# Altium footprint library PAL.PcbLib: 271 footprints (part 9 of 17)
Each footprint in its own frame and in the unit in brackets; x right, y up, seen from the top. Pads: shape width x height; smd on the part's side, far side on the other; paste and mask are expansions set on the pad; w line width, h text height; cw(c..) or ccw(c..) is an arc to the next point about the centre after c.
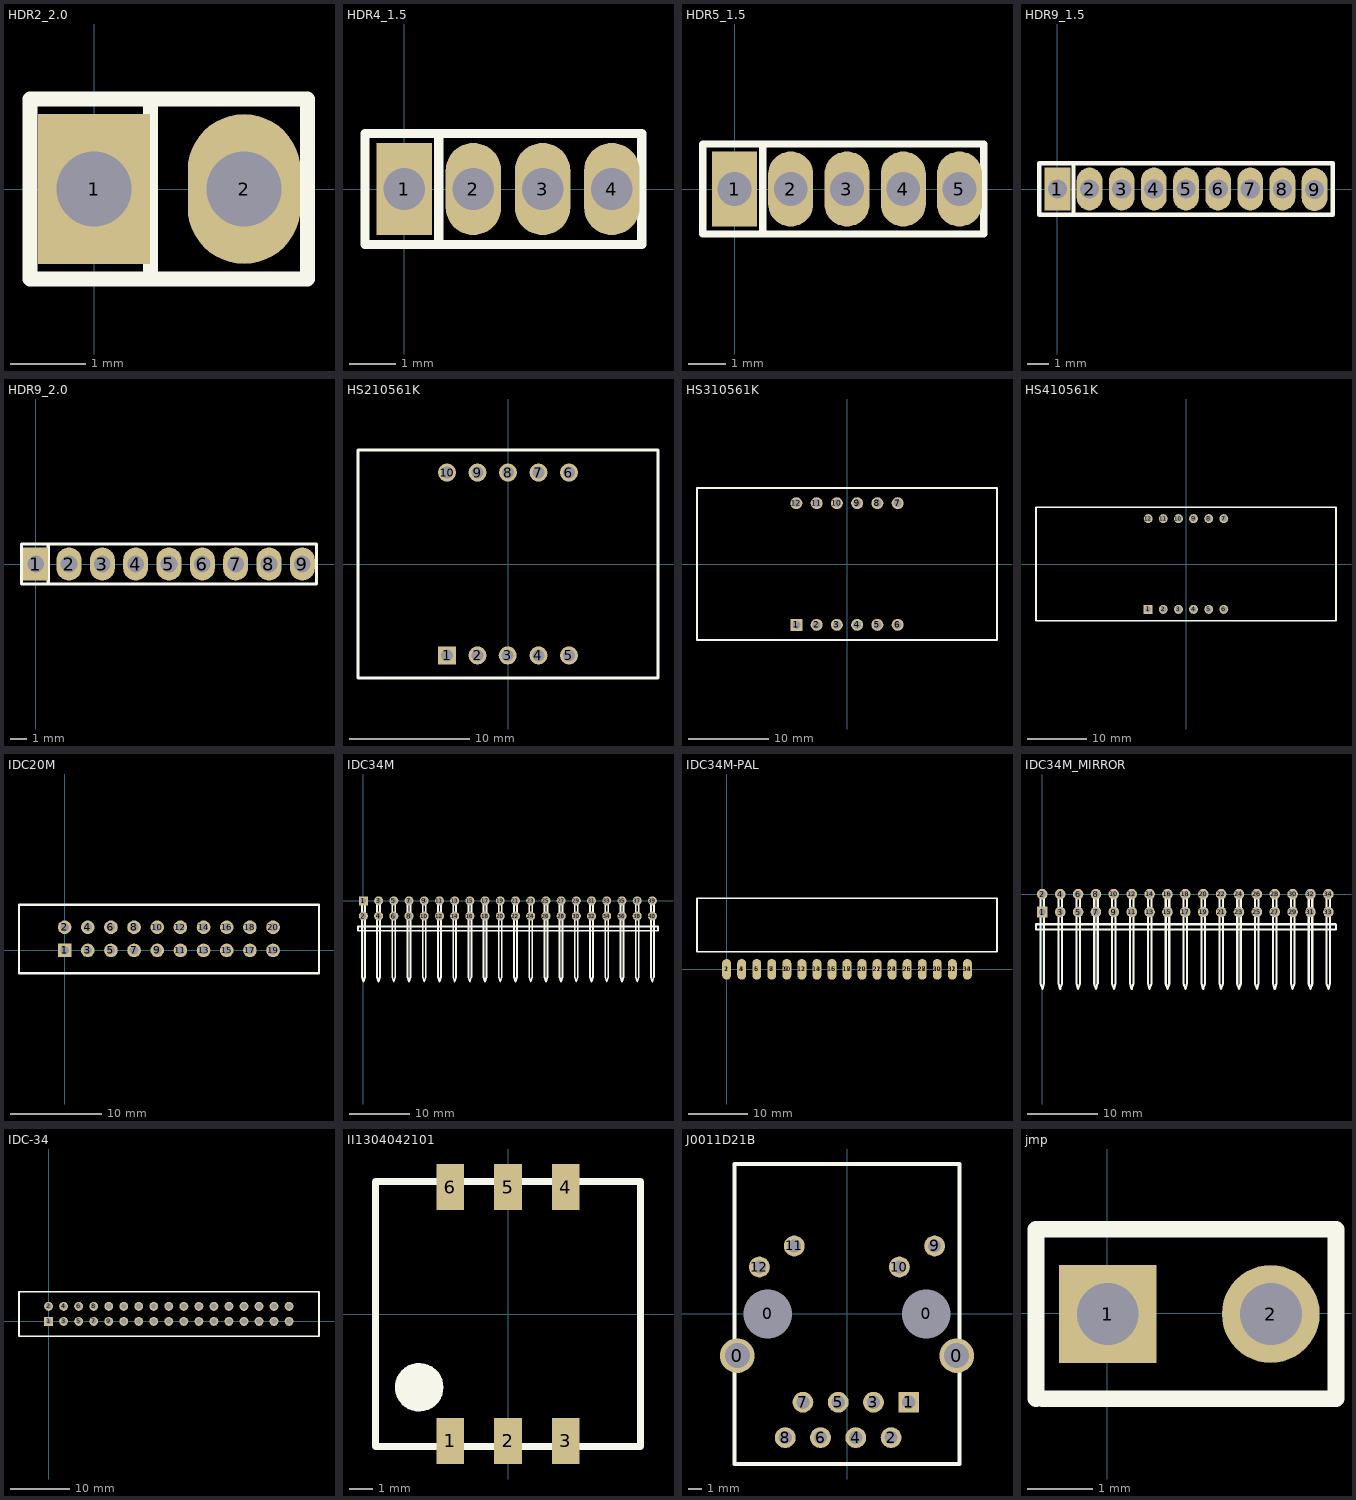
[diagram p8: the footprints below, top view; thin cyan lines are the x and y axes]

## HDR2_2.0 [mm]
pads (2):
  rect 1.5x2 hole 1: 1(0,0)
  oval 1.5x2 hole 1: 2(2,0)
Top Overlay:
  lines w0.2: 0.75,-1.2 0.75,1.2 ; -0.85,-1.2 2.85,-1.2 2.85,1.2 -0.85,1.2 -0.85,-1.2

## HDR4_1.5 [mm]
pads (4):
  rect 1.2x2 hole 0.9: 1(0,0)
  oval 1.2x2 hole 0.9: 2(1.5,0) 3(3,0) 4(4.5,0)
Top Overlay:
  lines w0.2: 0.75,-1.2 0.75,1.2 ; -0.85,-1.2 5.15,-1.2 5.15,1.2 -0.85,1.2 -0.85,-1.2

## HDR5_1.5 [mm]
pads (5):
  rect 1.2x2 hole 0.9: 1(0,0)
  oval 1.2x2 hole 0.9: 2(1.5,0) 3(3,0) 4(4.5,0) 5(6,0)
Top Overlay:
  lines w0.2: 0.75,-1.2 0.75,1.2 ; -0.85,-1.2 6.65,-1.2 6.65,1.2 -0.85,1.2 -0.85,-1.2

## HDR9_1.5 [mm]
pads (9):
  rect 1.2x2 on Top hole 0.9: 1(0,0)
  oval 1.2x2 on Top hole 0.9: 2(1.5,0) 3(3,0) 4(4.5,0) 5(6,0) 6(7.5,0) 7(9,0) 8(10.5,0) 9(12,-0.025)
Top Overlay:
  lines w0.2: 0.75,-1.2 0.75,1.2 ; -0.85,-1.2 12.85,-1.2 12.85,1.2 -0.85,1.2 -0.85,-1.2

## HDR9_2.0 [mm]
pads (9):
  rect 1.5x2 hole 1: 1(0,0)
  oval 1.5x2 hole 1: 2(2,0) 3(4,0) 4(6,0) 5(8,0) 6(10,0) 7(12,0) 8(14,0) 9(16,0)
Top Overlay:
  lines w0.2: 0.75,-1.2 0.75,1.2 ; -0.85,-1.2 -0.85,1.2 16.85,1.2 16.85,-1.2 -0.85,-1.2

## HS210561K [mm]
pads (10):
  rect 1.5x1.5 on Top hole 1: 1(-5.08,-7.62)
  round 1.5 on Top hole 1: 2(-2.54,-7.62) 3(-0.025,-7.62) 4(2.54,-7.62) 5(5.08,-7.62) 6(5.08,7.62) 7(2.54,7.62) 8(0,7.62) 9(-2.54,7.62) 10(-5.08,7.62)
Top Overlay:
  lines w0.254: -12.5,-9.5 0,-9.5 12.5,-9.5 12.5,0 12.5,9.5 0,9.5 -12.5,9.5 -12.5,0 -12.5,-9.5

## HS310561K [mm]
pads (12):
  rect 1.5x1.5 on Top hole 1: 1(-6.35,-7.62)
  round 1.5 on Top hole 1: 2(-3.81,-7.62) 3(-1.27,-7.62) 4(1.27,-7.62) 5(3.81,-7.62) 6(6.35,-7.62) 7(6.35,7.62) 8(3.81,7.62) 9(1.27,7.62) 10(-1.27,7.62) 11(-3.81,7.62) 12(-6.35,7.62)
Top Overlay:
  lines w0.254: -18.8,-9.5 -18.8,0 -18.8,9.5 0,9.5 18.8,9.5 18.8,0 18.8,-9.5 0,-9.5 -18.8,-9.5

## HS410561K [mm]
pads (12):
  rect 1.5x1.5 on Top hole 1: 1(-6.35,-7.62)
  round 1.5 on Top hole 1: 2(-3.81,-7.62) 3(-1.27,-7.62) 4(1.27,-7.62) 5(3.81,-7.62) 6(6.35,-7.62) 7(6.35,7.62) 8(3.81,7.62) 9(1.27,7.62) 10(-1.27,7.62) 11(-3.81,7.62) 12(-6.35,7.62)
Top Overlay:
  lines w0.254: -25.2,-9.5 0,-9.5 25.2,-9.5 25.2,0 25.2,9.5 0,9.5 -25.2,9.5 -25.2,0 -25.2,-9.5

## IDC20M [mm]
pads (20):
  rect 1.5x1.5 on Top hole 0.95: 1(0,0)
  round 1.5 on Top hole 0.95: 2(0,2.54) 3(2.54,0) 4(2.54,2.54) 5(5.08,0) 6(5.08,2.54) 7(7.62,0) 8(7.62,2.54) 9(10.16,0) 10(10.16,2.54) 11(12.7,0) 12(12.7,2.54) 13(15.24,0) 14(15.24,2.54) 15(17.78,0) 16(17.78,2.54) 17(20.32,0) 18(20.32,2.54) 19(22.86,0) 20(22.86,2.54)
Top Overlay:
  lines w0.254: -5,-2.5 -5,5 27.9,5 27.9,-2.5 -5,-2.5

## IDC34M [mm]
pads (40):
  rect 1.5x1.5 on Top hole 0.95: 1(0,0)
  round 1.5 on Top hole 0.95: 2(0,-2.54) 3(2.54,0) 4(2.54,-2.54) 5(5.08,0) 6(5.08,-2.54) 7(7.62,0) 8(7.62,-2.54) 9(10.16,0) 10(10.16,-2.54) 11(12.7,0) 12(12.7,-2.54) 13(15.24,0) 14(15.24,-2.54) 15(17.78,0) 16(17.78,-2.54) 17(20.32,0) 18(20.32,-2.54) 19(22.86,0) 20(22.86,-2.54) 21(25.4,0) 22(25.4,-2.54) 23(27.94,0) 24(27.94,-2.54) 25(30.48,0) 26(30.48,-2.54) 27(33.02,0) 28(33.02,-2.54) 29(35.56,0) 30(35.56,-2.54) 31(38.1,0) 32(38.1,-2.54) 33(40.64,0) 34(40.64,-2.54) 35(43.18,0) 36(43.18,-2.54) 37(45.72,0) 38(45.72,-2.54) 39(48.26,0) 40(48.26,-2.54)
Top Overlay:
  lines w0.3: -0.75,-4.275 49.175,-4.275 49.2,-4.3 49.2,-5 -0.9,-5 -0.9,-4.3 -0.875,-4.275 -0.675,-4.275 ; -0.25,0 -0.25,-12.7 0,-13.5 0.25,-12.7 0.25,0 ; -0.25,0.048 cw(c0,0.025) 0.25,0.05 ; 2.29,0 2.29,-12.7 2.54,-13.5 2.79,-12.7 2.79,0 ; 2.29,0.048 cw(c2.54,0.025) 2.79,0.05 ; 4.83,0 4.83,-12.7 5.08,-13.5 5.33,-12.7 5.33,0 ; 4.83,0.048 cw(c5.08,0.025) 5.33,0.05 ; 7.37,0 7.37,-12.7 7.62,-13.5 7.87,-12.7 7.87,0 ; 7.37,0.048 cw(c7.62,0.025) 7.87,0.05 ; 9.91,0 9.91,-12.7 10.16,-13.5 10.41,-12.7 10.41,0 ; 9.91,0.048 cw(c10.16,0.025) 10.41,0.05 ; 12.45,0 12.45,-12.7 12.7,-13.5 12.95,-12.7 12.95,0 ; 12.45,0.048 cw(c12.7,0.025) 12.95,0.05 ; 14.99,0 14.99,-12.7 15.24,-13.5 15.49,-12.7 15.49,0 ; 14.99,0.048 cw(c15.24,0.025) 15.49,0.05 ; 17.53,0 17.53,-12.7 17.78,-13.5 18.03,-12.7 18.03,0 ; 17.53,0.048 cw(c17.78,0.025) 18.03,0.05 ; 20.07,0 20.07,-12.7 20.32,-13.5 20.57,-12.7 20.57,0 ; 20.07,0.048 cw(c20.32,0.025) 20.57,0.05 ; 22.61,0 22.61,-12.7 22.86,-13.5 23.11,-12.7 23.11,0 ; 22.61,0.048 cw(c22.86,0.025) 23.11,0.05 ; 25.15,0 25.15,-12.7 25.4,-13.5 25.65,-12.7 25.65,0 ; 25.15,0.048 cw(c25.4,0.025) 25.65,0.05 ; 27.69,0 27.69,-12.7 27.94,-13.5 28.19,-12.7 28.19,0 ; 27.69,0.048 cw(c27.94,0.025) 28.19,0.05 ; 30.23,0 30.23,-12.7 30.48,-13.5 30.73,-12.7 30.73,0 ; 30.23,0.048 cw(c30.48,0.025) 30.73,0.05 ; 32.77,0 32.77,-12.7 33.02,-13.5 33.27,-12.7 33.27,0 ; 32.77,0.048 cw(c33.02,0.025) 33.27,0.05 ; 35.31,0 35.31,-12.7 35.56,-13.5 35.81,-12.7 35.81,0 ; 35.31,0.048 cw(c35.56,0.025) 35.81,0.05 ; 37.85,0 37.85,-12.7 38.1,-13.5 38.35,-12.7 38.35,0 ; 37.85,0.048 cw(c38.1,0.025) 38.35,0.05 ; 40.39,0 40.39,-12.7 40.64,-13.5 40.89,-12.7 40.89,0 ; 40.39,0.048 cw(c40.64,0.025) 40.89,0.05 ; 42.93,0 42.93,-12.7 43.18,-13.5 43.43,-12.7 43.43,0 ; 42.93,0.048 cw(c43.18,0.025) 43.43,0.05 ; 45.47,0 45.47,-12.7 45.72,-13.5 45.97,-12.7 45.97,0 ; 45.47,0.048 cw(c45.72,0.025) 45.97,0.05 ; 48.01,-12.7 48.01,0 48.01,-12.7 ; 48.01,-12.7 48.26,-13.5 ; 48.01,-12.7 48.26,-13.5 ; 48.26,-13.5 48.51,-12.7 ; 48.26,-13.5 48.51,-12.7 ; 48.51,-12.7 48.51,0 48.51,-12.7 ; 48.01,0.048 cw(c48.26,0.025) 48.51,0.05 ccw(c48.26,0.025) 48.01,0.048

## IDC34M-PAL [mm]
pads (34):
  oval 1.5x3.5 smd: 1(0,0) 2(0,0) 3(2.54,0) 4(2.54,0) 5(5.08,0) 6(5.08,0) 7(7.62,0) 8(7.62,0) 9(10.16,0) 10(10.16,0) 11(12.7,0) 12(12.7,0) 13(15.24,0) 14(15.24,0) 15(17.78,0) 16(17.78,0) 17(20.32,0) 18(20.32,0) 19(22.86,0) 20(22.86,0) 21(25.4,0) 22(25.4,0) 23(27.94,0) 24(27.94,0) 25(30.48,0) 26(30.48,0) 27(33.02,0) 28(33.02,0) 29(35.56,0) 30(35.56,0) 31(38.1,0) 32(38.1,0) 33(40.64,0) 34(40.64,0)
Top Overlay:
  lines w0.254: -5,3 45.64,3 45.64,12 -5,12 -5,3

## IDC34M_MIRROR [mm]
pads (34):
  rect 1.5x1.5 on Top hole 0.95: 1(0,-2.54)
  round 1.5 on Top hole 0.95: 2(0,0) 3(2.54,-2.54) 4(2.54,0) 5(5.08,-2.54) 6(5.08,0) 7(7.62,-2.54) 8(7.62,0) 9(10.16,-2.54) 10(10.16,0) 11(12.7,-2.54) 12(12.7,0) 13(15.24,-2.54) 14(15.24,0) 15(17.78,-2.54) 16(17.78,0) 17(20.32,-2.54) 18(20.32,0) 19(22.86,-2.54) 20(22.86,0) 21(25.4,-2.54) 22(25.4,0) 23(27.94,-2.54) 24(27.94,0) 25(30.48,-2.54) 26(30.48,0) 27(33.02,-2.54) 28(33.02,0) 29(35.56,-2.54) 30(35.56,0) 31(38.1,-2.54) 32(38.1,0) 33(40.64,-2.54) 34(40.64,0)
Top Overlay:
  lines w0.254: 41.725,-5 41.725,-4.275
  lines w0.3: -0.75,-4.275 41.675,-4.275 ; -0.675,-4.275 -0.875,-4.275 -0.9,-4.3 -0.9,-5 41.7,-5 ; -0.25,-2.517 cw(c0,-2.54) 0.25,-2.515 ; -0.25,0 -0.25,-12.7 0,-13.5 0.25,-12.7 0.25,0 ; 2.29,-2.517 cw(c2.54,-2.54) 2.79,-2.515 ; 2.29,0 2.29,-12.7 2.54,-13.5 2.79,-12.7 2.79,0 ; 4.83,-2.517 cw(c5.08,-2.54) 5.33,-2.515 ; 4.83,0 4.83,-12.7 5.08,-13.5 5.33,-12.7 5.33,0 ; 7.37,-2.517 cw(c7.62,-2.54) 7.87,-2.515 ; 7.37,0 7.37,-12.7 7.62,-13.5 7.87,-12.7 7.87,0 ; 9.91,-2.517 cw(c10.16,-2.54) 10.41,-2.515 ; 9.91,0 9.91,-12.7 10.16,-13.5 10.41,-12.7 10.41,0 ; 12.45,-2.517 cw(c12.7,-2.54) 12.95,-2.515 ; 12.45,0 12.45,-12.7 12.7,-13.5 12.95,-12.7 12.95,0 ; 14.99,-2.517 cw(c15.24,-2.54) 15.49,-2.515 ; 14.99,0 14.99,-12.7 15.24,-13.5 15.49,-12.7 15.49,0 ; 17.53,-2.517 cw(c17.78,-2.54) 18.03,-2.515 ; 17.53,0 17.53,-12.7 17.78,-13.5 18.03,-12.7 18.03,0 ; 20.07,-2.517 cw(c20.32,-2.54) 20.57,-2.515 ; 20.07,0 20.07,-12.7 20.32,-13.5 20.57,-12.7 20.57,0 ; 22.61,-2.517 cw(c22.86,-2.54) 23.11,-2.515 ; 22.61,0 22.61,-12.7 22.86,-13.5 23.11,-12.7 23.11,0 ; 25.15,-2.517 cw(c25.4,-2.54) 25.65,-2.515 ; 25.15,0 25.15,-12.7 25.4,-13.5 25.65,-12.7 25.65,0 ; 27.69,-2.517 cw(c27.94,-2.54) 28.19,-2.515 ; 27.69,0 27.69,-12.7 27.94,-13.5 28.19,-12.7 28.19,0 ; 30.23,-2.517 cw(c30.48,-2.54) 30.73,-2.515 ; 30.23,0 30.23,-12.7 30.48,-13.5 30.73,-12.7 30.73,0 ; 32.77,-2.517 cw(c33.02,-2.54) 33.27,-2.515 ; 32.77,0 32.77,-12.7 33.02,-13.5 33.27,-12.7 33.27,0 ; 35.31,-2.517 cw(c35.56,-2.54) 35.81,-2.515 ; 35.31,0 35.31,-12.7 35.56,-13.5 35.81,-12.7 35.81,0 ; 37.85,-2.517 cw(c38.1,-2.54) 38.35,-2.515 ; 37.85,0 37.85,-12.7 38.1,-13.5 38.35,-12.7 38.35,0 ; 40.39,-2.517 cw(c40.64,-2.54) 40.89,-2.515 ; 40.39,0 40.39,-12.7 40.64,-13.5 40.89,-12.7 40.89,0

## IDC-34 [mm]
pads (34):
  rect 1.5x1.5 on Top hole 0.95: 1(0,0)
  round 1.5 on Top hole 0.95: 2(0,2.54) 3(2.54,0) 4(2.54,2.54) 5(5.08,0) 6(5.08,2.54) 7(7.62,0) 8(7.62,2.54) 9(10.16,0) 10(10.16,2.54) 11(12.7,0) 12(12.7,2.54) 13(15.24,0) 14(15.24,2.54) 15(17.78,0) 16(17.78,2.54) 17(20.32,0) 18(20.32,2.54) 19(22.86,0) 20(22.86,2.54) 21(25.4,0) 22(25.4,2.54) 23(27.94,0) 24(27.94,2.54) 25(30.48,0) 26(30.48,2.54) 27(33.02,0) 28(33.02,2.54) 29(35.56,0) 30(35.56,2.54) 31(38.1,0) 32(38.1,2.54) 33(40.64,0) 34(40.64,2.54)
Top Overlay:
  lines w0.254: 27.8,5 45.7,5 45.7,-2.5 27.9,-2.5 -5,-2.5 -5,5 27.9,5

## II1304042101 [mm]
pads (6):
  rect 1.2x2 smd: 1(-2.5,-5.5) 2(0,-5.5) 3(2.5,-5.5) 4(2.5,5.5) 5(0,5.5) 6(-2.5,5.5)
Top Overlay:
  circle w0.254: c-3.825,-3.175 r0.1
  circle w0.254: c-3.825,-3.15 r0.182
  circle w0.254: c-3.825,-3.175 r0.401
  circle w0.254: c-3.825,-3.175 r0.358
  circle w0.254: c-3.85,-3.15 r0.53
  circle w0.254: c-3.85,-3.175 r0.649
  circle w0.254: c-3.85,-3.175 r0.783
  circle w0.254: c-3.85,-3.175 r0.928
  lines w0.3: -5.75,-5.75 -5.75,5.75 5.75,5.75 5.75,-5.75 -5.75,-5.75

## J0011D21B [mm]
pads (16):
  round 2.5 on Top hole 1.8: 0(-7.9,-3) 0(7.9,-3)
  round 1.5 on Top hole 3.5: 0(-5.7,0) 0(5.7,0)
  rect 1.5x1.5 on Top hole 0.95: 1(4.445,-6.35)
  round 1.5 on Top hole 0.95: 2(3.175,-8.9) 3(1.905,-6.35) 4(0.635,-8.9) 5(-0.635,-6.35) 6(-1.905,-8.9) 7(-3.175,-6.35) 8(-4.445,-8.9) 9(6.31,4.9) 10(3.77,3.38) 11(-3.8,4.9) 12(-6.31,3.38)
Top Overlay:
  lines w0.3: -8.1,-10.8 -8.1,0 -8.1,10.8 0,10.8 8.1,10.8 8.1,0 8.1,-10.8 0,-10.8 -8.1,-10.8

## jmp [mm]
pads (2):
  rect 1.5x1.5 on Top hole 0.95: 1(0.008,-0.012)
  round 1.5 on Top hole 0.95: 2(2.508,-0.012)
Top Overlay:
  lines w0.254: -1.092,-1.312 -1.092,1.188 ; -1.092,0.788 -1.092,1.288 3.508,1.288 3.508,1.188 3.508,-1.312 3.408,-1.312 -0.992,-1.312